# Altium schematic symbol library MCP1811AT.Schlib: 1 symbol
Pins are listed as number, name and electrical type; pins without a type are passive.

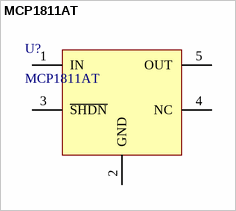
[diagram p0: symbol MCP1811AT]

## MCP1811AT
designator U?
pins: 1 IN, 2 GND, 3 ~{SHDN}, 4 NC, 5 OUT